# Altium schematic symbol library rs485-422_isolated.SchLib: 12 symbols
Pins are listed as number, name and electrical type; pins without a type are passive.

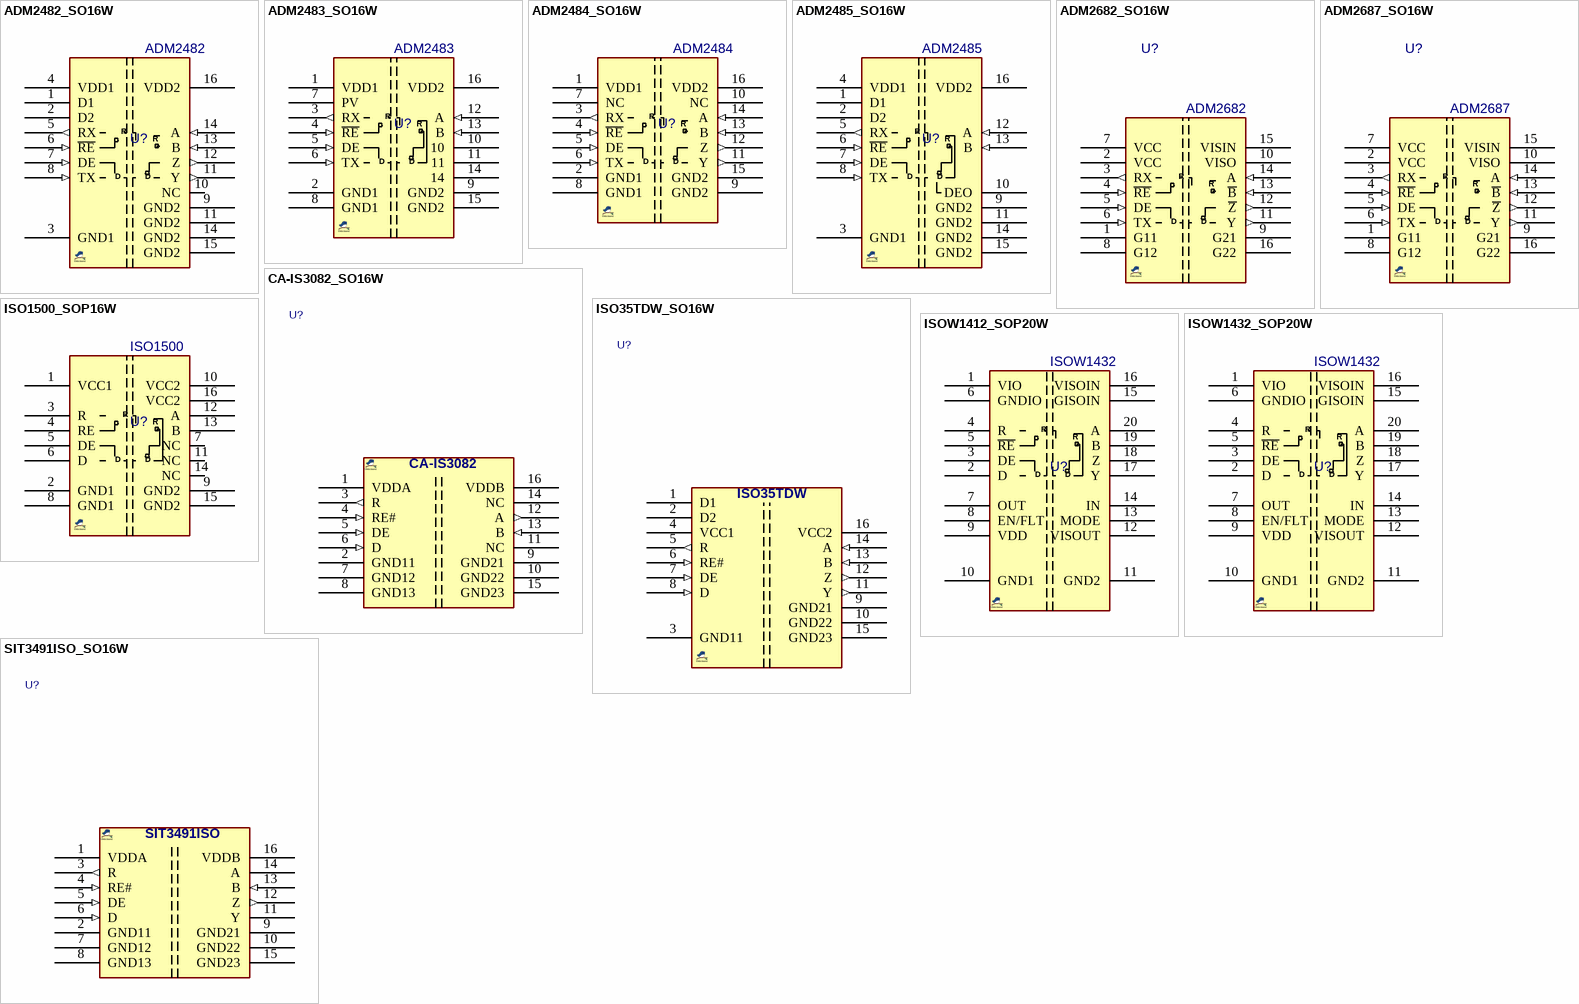
[diagram p0: symbols ADM2482_SO16W to SIT3491ISO_SO16W]

## ADM2482_SO16W
designator U?, comment ADM2482
RS-485 Transceiver, Isolated, iIntegrated Transformer Driver, 500kbps; MANF: Analog Devices; MANF_P#: ADM2482EBRWZ; PARAM2: 5/3.3 (VDD1); PARAM: 2.5KV Isolating, 500kbps, -40~85°C; PRICE: 7$; Package: SOP-16 WIDE; VALUE: ADM2482
footprint SO_16_W
pins: 1 D1, 2 D2, 3 GND1, 4 VDD1, 5 RX (out), 6 ~{RE} (in), 7 DE (in), 8 TX (in), 9 GND2, 10 NC, 11 GND2, 11 Y (out), 12 Z (out), 13 B (in), 14 GND2, 14 A (in), 15 GND2, 16 VDD2
text: R; D

## ADM2483_SO16W
designator U?, comment ADM2483
RS-485 Transceiver, Isolated, iCoupler, 16Mbps; MANF: Analog Devices; MANF_P#: ADM2483BRW; PARAM2: 5/3.3 (VDD1); PARAM: 2.5KV Isolating, 16Mbps, -40~85°C; PRICE: 6000toman@JAVAN; Package: SOP-16 WIDE; VALUE: ADM2483
footprint SO_16_W
pins: 1 VDD1, 2 GND1, 3 RX (out), 4 ~{RE} (in), 5 DE (in), 6 TX (in), 7 PV, 8 GND1, 9 GND2, 10, 11, 12 A (in), 13 B (in), 14, 15 GND2, 16 VDD2
text: R; D

## ADM2484_SO16W
designator U?, comment ADM2484
RS-485 Transceiver, Isolated, iCoupler, Full-Duplex; MANF: Analog Devices; MANF_P#: ADM2484EBRWZ; PARAM2: 5v/3.3v; PARAM: 5KV Isolating, 500kbps, -40~85°C; Package: SOP-16 WIDE; VALUE: ADM2484
footprint SO_16_W
pins: 1 VDD1, 2 GND1, 3 RX (out), 4 ~{RE} (in), 5 DE (in), 6 TX (in), 7 NC, 8 GND1, 9 GND2, 10 NC, 11 Y (out), 12 Z (out), 13 B (in), 14 A (in), 15 GND2, 16 VDD2
text: R; D

## ADM2485_SO16W
designator U?, comment ADM2485
RS-485 Transceiver, Isolated, iIntegrated Transformer Driver, 16Mbps; MANF: Analog Devices; MANF_P#: ADM2485BRWZ; PARAM2: 5/3.3 (VDD1); PARAM: 2.5KV Isolating, 16Mbps, -40~85°C; PRICE: 22000toman@PAYA; Package: SOP-16 WIDE; VALUE: ADM2485
footprint SO_16_W
pins: 1 D1, 2 D2, 3 GND1, 4 VDD1, 5 RX (out), 6 ~{RE} (in), 7 DE (in), 8 TX (in), 9 GND2, 10 DEO, 11 GND2, 12 A (in), 13 B (in), 14 GND2, 15 GND2, 16 VDD2
text: R; D

## ADM2682_SO16W
designator U?, comment ADM2682
RS-485 Transceiver, Isolated sig, IsoPOWER; MANF: Analog Devices; MANF_P#: ADM2682EBRIZ; PARAM2: 5/3.3VCC; PARAM: 16Mbps, -40~85°C; PRICE: 15$; Package: SOP-16 WIDE; VALUE: ADM2682
footprint SO_16_WL (SOP, SOIC, 7.5mm width, 1.27mm pitch, MS-013-AC, RI-16-2, 16-Lead)
pins: 1 G11, 2 VCC, 3 RX (out), 4 ~{RE} (in), 5 DE (in), 6 TX (in), 7 VCC, 8 G12, 9 G21, 10 VISO, 11 Y (out), 12 ~{Z} (out), 13 ~{B} (in), 14 A (in), 15 VISIN, 16 G22
text: R; D

## ADM2687_SO16W
designator U?, comment ADM2687
RS-485 Transceiver, Isolated sig, IsoPOWER; MANF: Analog Devices; MANF_P#: ADM2687EBRIZ; PARAM2: 5/3.3VCC; PARAM: 500Kbps, -40~85°C; PRICE: 14$; Package: SOP-16 WIDE; VALUE: ADM2687
footprint SO_16_WL (SOP, SOIC, 7.5mm width, 1.27mm pitch, MS-013-AC, RI-16-2, 16-Lead)
pins: 1 G11, 2 VCC, 3 RX (out), 4 ~{RE} (in), 5 DE (in), 6 TX (in), 7 VCC, 8 G12, 9 G21, 10 VISO, 11 Y (out), 12 ~{Z} (out), 13 ~{B} (in), 14 A (in), 15 VISIN, 16 G22
text: R; D

## CA-IS3082_SO16W
designator U?, comment CA-IS3082  (value not drawn)
RS-485 Transceiver, Isolated, 5KVrms, 0.5Mbps; ASSEMBLY: Y; PARAM2: 3~5v; MANF: Chipanalog; MANF_P#: CA-IS3082CWX; PARAM: 5KVrms Isolating, 1Mbps, 256nod, -40~125°C; Package: SOP-16 WIDE; Value: CA-IS3082; Category: IC; Mounting Type: SMT
footprint SO_16_W (SOP, SOIC, 7.5mm width, 1.27mm pitch,)
pins: 1 VDDA (power), 2 GND11 (power), 3 R (out), 4 RE# (in), 5 DE (in), 6 D (in), 7 GND12 (power), 8 GND13 (power), 9 GND21 (power), 10 GND22 (power), 11 NC, 12 A (out), 13 B (in), 14 NC, 15 GND23 (power), 16 VDDB (power)

## ISO35TDW_SO16W
designator U?, comment ISO35TDW  (value not drawn)
RS-485 Transceiver, Isolated, 2.5KVrms, 1Mbps with transformer driver; ASSEMBLY: Y; PARAM2: 3.3v; MANF: Texas Instruments; PARAM: 2.5KVrms Isolating, 1Mbps, 256nod, -40~85°C; Package: SOP-16 WIDE; Value: ISO35TDW; Category: IC; Mounting Type: SMT; MANF_P#: ISO35TDW
footprint SO_16_W (SOP, SOIC, 7.5mm width, 1.27mm pitch,)
pins: 1 D1 (power), 2 D2 (power), 3 GND11 (power), 4 VCC1 (power), 5 R (out), 6 RE# (in), 7 DE (in), 8 D (in), 9 GND21 (power), 10 GND22 (power), 11 Y (out), 12 Z (out), 13 B (in), 14 A (in), 15 GND23 (power), 16 VCC2 (power)

## ISO1500_SOP16W
designator U?, comment ISO1500
RS-485 Transceiver, Isolated, 3KVrms, 1Mbps; MANF: Texas Instruments; MANF_P#: ISO1500DBQ; PARAM2: 1.7~5.5VDD1; PARAM: 3KV Isolating, 1Mbps, -40~125°C; PRICE: 6$; Package: SOP-16 WIDE; VALUE: ISO1500
footprint SO_16_W
pins: 1 VCC1, 2 GND1, 3 R, 4 RE, 5 DE, 6 D, 7 NC, 8 GND1, 9 GND2, 10 VCC2, 11 NC, 12 A, 13 B, 14 NC, 15 GND2, 16 VCC2

## ISOW1412_SOP20W
designator U?, comment ISOW1432
RS-485/RS-422 Transceiver, Isolated, 5KVrms, 500kbps, power Integ.; MANF: Texas Instruments; MANF_P#: ISOW1412DFMR; PARAM2: 1.7~5.5VIO, 3~5.5Vdd, 3.3/5Viso; PARAM: 5KV Isolating, 500kbps, -40~125°C; PRICE: 6$; Package: SOP-20 WIDE; VALUE: ISOW1432
footprint SO_20_W (SOP, SOIC, 7.5mm width, 1.27mm pitch,)
pins: 1 VIO, 2 D, 3 DE, 4 R, 5 ~{RE}, 6 GNDIO, 7 OUT, 8 EN/FLT, 9 VDD, 10 GND1, 11 GND2, 12 VISOUT, 13 MODE, 14 IN, 15 GISOIN, 16 VISOIN, 17 Y, 18 Z, 19 B, 20 A

## ISOW1432_SOP20W
designator U?, comment ISOW1432
RS-485/RS-422 Transceiver, Isolated, 5KVrms, 12Mbps, power Integ.; MANF: Texas Instruments; MANF_P#: ISOW1432DFMR; PARAM2: 1.7~5.5VIO, 3~5.5Vdd, 3.3/5Viso; PARAM: 5KV Isolating, 12Mbps, -40~125°C; PRICE: 6$; Package: SOP-20 WIDE; VALUE: ISOW1432
footprint SO_20_W (SOP, SOIC, 7.5mm width, 1.27mm pitch,)
pins: 1 VIO, 2 D, 3 DE, 4 R, 5 ~{RE}, 6 GNDIO, 7 OUT, 8 EN/FLT, 9 VDD, 10 GND1, 11 GND2, 12 VISOUT, 13 MODE, 14 IN, 15 GISOIN, 16 VISOIN, 17 Y, 18 Z, 19 B, 20 A

## SIT3491ISO_SO16W
designator U?, comment SIT3491ISO  (value not drawn)
RS-485 Transceiver, Isolated, 5KVrms, 16Mbps; ASSEMBLY: Y; PARAM2: 2.5~5.5VCC1, 4.5~5.5VCC2; MANF: SIT; PARAM: 5KVrms Isolating, 16Mbps, 256nod, -40~125°C; Package: SOP-16 WIDE; Value: SIT3491ISO; Category: IC; Mounting Type: SMT; MANF_P#: SIT3491ISO
footprint SO_16_W (SOP, SOIC, 7.5mm width, 1.27mm pitch,)
pins: 1 VDDA (power), 2 GND11 (power), 3 R (out), 4 RE# (in), 5 DE (in), 6 D (in), 7 GND12 (power), 8 GND13 (power), 9 GND21 (power), 10 GND22 (power), 11 Y, 12 Z (out), 13 B (in), 14 A, 15 GND23 (power), 16 VDDB (power)